# Altium footprint library Antenna.PcbLib: 1 footprints
Each footprint in its own frame and in the unit in brackets; x right, y up, seen from the top. Pads: shape width x height; smd on the part's side, far side on the other; paste and mask are expansions set on the pad; w line width, h text height; cw(c..) or ccw(c..) is an arc to the next point about the centre after c.
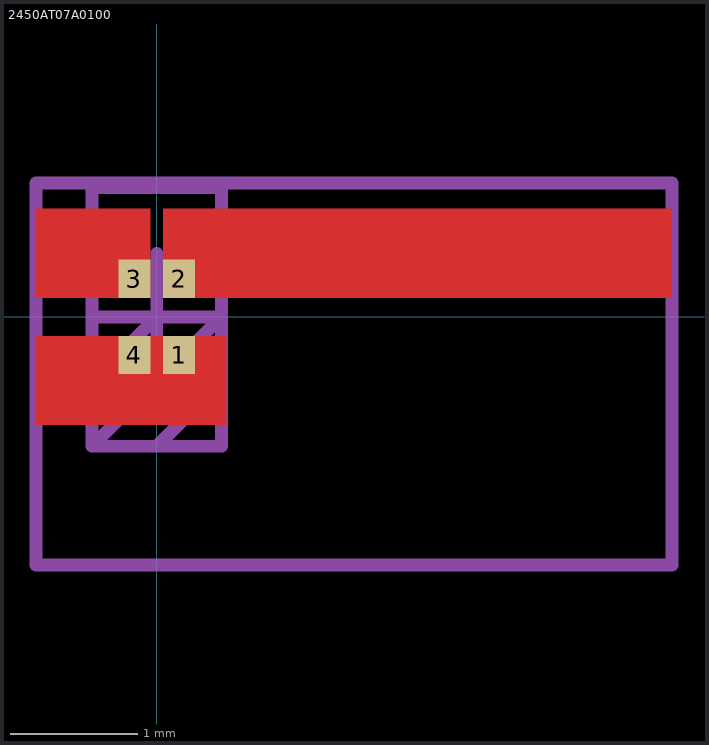
[diagram p0: the footprint, top view; thin cyan lines are the x and y axes]

## 2450AT07A0100 [mm] "Ultra-Miniature 2.4GHz Chip antenna 0.37mm max Thickness"
pads (4):
  rect 0.25x0.3 smd: 1(0.175,-0.3) 2(0.175,0.3) 3(-0.175,0.3) 4(-0.175,-0.3)
Top Layer:
  rectangle: 0.05,0.15 4.05,0.85
  rectangle: -0.95,0.15 -0.05,0.85
  rectangle: -0.95,-0.85 0.55,-0.15
Top Assembly:
  lines w0.102: -0.508,-0.508 0,0 ; -0.508,0 0.508,0 -0.508,-1.016 ; 0,-1.016 0.508,-0.508 ; -0.508,-1.016 0.508,-1.016 0.508,1.016 -0.508,1.016 -0.508,-1.016
  text "White" at 0.711,0.33 h0.46
  text "Red" at 0.711,-0.787 h0.46
Top Courtyard:
  lines w0.102: -0.95,-1.948 4.05,-1.948 4.05,1.052 -0.95,1.052 -0.95,-1.948
Bottom Courtyard:
  lines w0.102: -0.95,-1.948 4.05,-1.948 4.05,1.052 -0.95,1.052 -0.95,-1.948
Top Component Center:
  lines w0.1: -0.5,0 0.5,0 ; 0,-0.5 0,0.5
Multi-Layer:
  pour cut-out: -0.95,1.052 -0.95,-1.948 4.05,-1.948 4.05,1.052
3D body: height 0.36, standoff 0, extent -0.25,-0.5 0.25,0.5
3D body: height 0.36, standoff 0, extent -0.254,-0.508 0.254,0